# Altium footprint library STACKPOLE CSR0402.PCBLIB: 1 footprints
Each footprint in its own frame and in the unit in brackets; x right, y up, seen from the top. Pads: shape width x height; smd on the part's side, far side on the other; paste and mask are expansions set on the pad; w line width, h text height; cw(c..) or ccw(c..) is an arc to the next point about the centre after c.
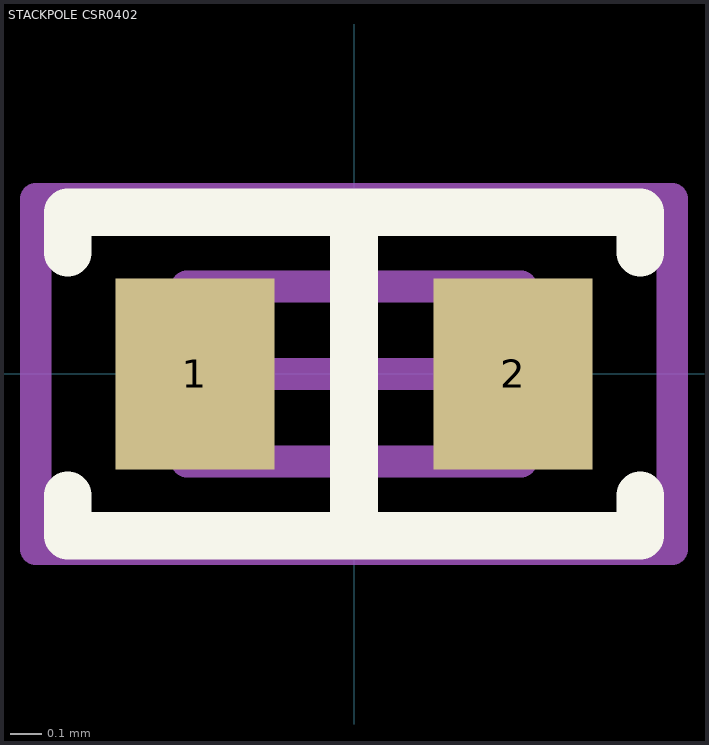
[diagram p0: the footprint, top view; thin cyan lines are the x and y axes]

## STACKPOLE CSR0402 [mm] "Chip Resistor, 2-Leads, Body 1.0x0.5mm, IPC Medium Density"
height 0.4
pads (2):
  rect 0.5x0.6 smd: 1(-0.5,0) 2(0.5,0)
Top Overlay:
  lines w0.15: -0.9,-0.381 -0.9,-0.508 0.9,-0.508 0.9,-0.381 ; -0.9,0.381 -0.9,0.508 0.9,0.508 0.9,0.381 ; 0,-0.508 0,0.508
Mechanical 13:
  lines w0.1: -0.525,-0.275 0.525,-0.275 0.525,0.275 -0.525,0.275 -0.525,-0.275
Mechanical 15:
  lines w0.1: -0.275,0 0.275,0 ; 0,-0.275 0,0.275 ; -1,-0.55 1,-0.55 1,0.55 -1,0.55 -1,-0.55
3D body "Stackpole CSR0402 Res.STEP": height 0.32, standoff 0, extent -0.525,-0.25 0.525,0.25